# Altium schematic symbol library controller sch lib.SchLib: 18 symbols
Pins are listed as number, name and electrical type; pins without a type are passive.

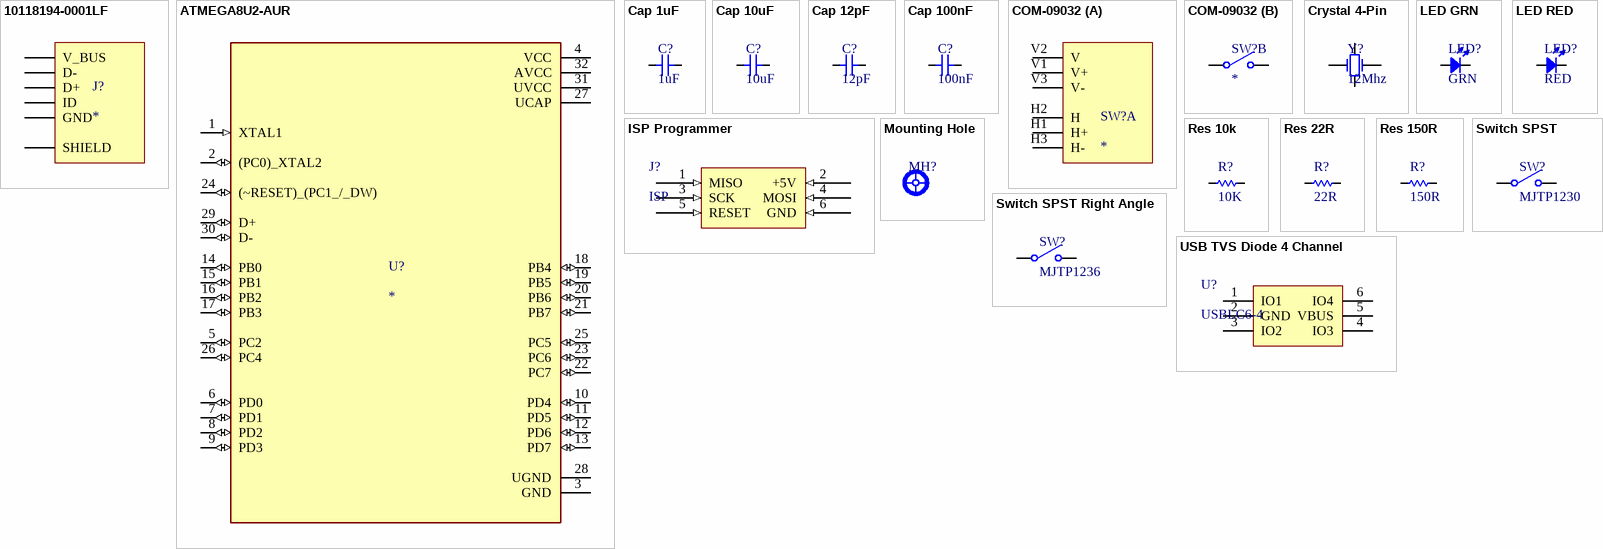
[diagram p0: symbols 10118194-0001LF to USB TVS Diode 4 Channel]

## 10118194-0001LF
designator J?
USB - micro B USB 2.0 Receptacle Connector 5 Position Surface Mount, Right Angle; Through Hole; MF: Amphenol ICC; MP: 10118194-0001LF; Package: None; Price: None; Availability: Unavailable; SnapEDA_Link: https://www.snapeda.com/parts/10118194-0001LF/Amphenol%20FCI/view-part/1413308/?ref=snap; Value: *
footprint AMPHENOL_10118194-0001LF
pins: 1 V_BUS, 2 D-, 3 D+, 4 ID, 5 GND, S1 SHIELD

## ATMEGA8U2-AUR
designator U?
AVR AVRÂ® ATmega Microcontroller IC 8-Bit 16MHz 8KB (4K x 16) FLASH 32-TQFP (7x7); MF: Microchip Technology / Atmel; MP: ATMEGA8U2-AUR; Value: *; Purchase-URL: https://pricing.snapeda.com/search/part/ATMEGA8U2-AUR/?ref=eda; Check_prices: https://www.snapeda.com/parts/ATMEGA8U2-AUR/Atmel/view-part/?ref=eda; Digi-Key_Part_Number: ATMEGA8U2-AURCT-ND; SnapEDA_Link: https://www.snapeda.com/parts/ATMEGA8U2-AUR/Atmel/view-part/?ref=snap; Package: None
footprint QFP80P900X900X120-32N
pins: 1 XTAL1 (in), 2 (PC0)_XTAL2 (io), 3 GND (power), 4 VCC (power), 5 PC2 (io), 6 PD0 (io), 7 PD1 (io), 8 PD2 (io), 9 PD3 (io), 10 PD4 (io), 11 PD5 (io), 12 PD6 (io), 13 PD7 (io), 14 PB0 (io), 15 PB1 (io), 16 PB2 (io), 17 PB3 (io), 18 PB4 (io), 19 PB5 (io), 20 PB6 (io), 21 PB7 (io), 22 PC7 (io), 23 PC6 (io), 24 (~RESET)_(PC1_/_DW) (io), 25 PC5 (io), 26 PC4 (io), 27 UCAP (power), 28 UGND (power), 29 D+ (io), 30 D- (io), 31 UVCC (power), 32 AVCC (power)

## Cap 1uF
designator C?, comment 1uF
CAP CER 1UF 25V X5R 0603 / CC0603KRX5R8BB105
footprint 0603 Chip (Chip Resistor, 2-Leads, Body 1.60x0.80mm, IPC Medium Density)
pins: 1, 2

## Cap 10uF
designator C?, comment 10uF
X5R 25V ±10% 10uF 0805 Multilayer Ceramic Capacitors MLCC - SMD/SMT ROHSCL21A106KAYNNNE
footprint 0805 SMD (Chip Capacitor, 2-Leads, Body 2.00x1.25mm, IPC Medium Density)
pins: 1, 2

## Cap 12pF
designator C?, comment 12pF
50V 12pF C0G ±5% 0603 Multilayer Ceramic Capacitors MLCC - SMD/SMT ROHS / CL10C120JB8NNNC
footprint 0603 Chip (Chip Resistor, 2-Leads, Body 1.60x0.80mm, IPC Medium Density)
pins: 1, 2

## Cap 100nF
designator C?, comment 100nF
50V 100nF X7R ±10% 0603 Multilayer Ceramic Capacitors MLCC - SMD/SMT ROHS / CC0603KRX7R9BB104
footprint 0603 Chip (Chip Resistor, 2-Leads, Body 1.60x0.80mm, IPC Medium Density)
pins: 1, 2

## COM-09032
designator SW?
Joystick, 2 - Axis Analog _Resistive_ Output; MF: SparkFun Electronics; MP: COM-09032; SnapEDA_Link: https://www.snapeda.com/parts/COM-09032/SparkFun%20Electronics/view-part/888157/?ref=snap; Availability: Unavailable; Value: *; Price: None; Package: SparkFun Electronics
footprint XDCR_COM-09032
part A pins: H1 H+, H2 H, H3 H-, V1 V+, V2 V, V3 V-
part B pins: 1 COMMON, 2 NO

## Crystal 4-Pin
designator Y?, comment 12Mhz
16MHz SMD Crystal Resonator 9pF ±10ppm ±30ppm -40℃~+85℃ / SMD3225-4P Crystals ROHS / X322516MLB4SI
footprint OSC_X322516MLB4SI
pins: 1 OSC1, 2 OSC2, 3, 4

## ISP Programmer
designator J?, comment ISP
6 Pin Header
footprint SAMTEC_TSW-103-17-S-D
pins: 1 MISO (in), 2 +5V (in), 3 SCK (in), 4 MOSI (in), 5 RESET (in), 6 GND (in)

## LED GRN
designator LED?, comment GRN
Yellow-Green 0805 Light Emitting Diodes (LED) ROHS / 17-21SYGC/S530-E3/TR8
footprint RESC2012X65N
pins: 1 A, 2 K

## LED RED
designator LED?, comment RED
20mA 61mcd 2V 632nm Colorless transparence 624nm~624nm -40℃~+85℃ Red 140° 60mW 0805 Light Emitting Diodes (LED) ROHS / 17-21SURC/S530-A3/TR8
footprint RESC2012X65N
pins: 1 A, 2 K

## Mounting Hole
designator MH?  (value not drawn)

## Res 10k
designator R?, comment 10K
±5% 100mW Thick Film Resistors 75V ±100ppm/℃ -55℃~+125℃ 10kΩ 0603 Chip Resistor - Surface Mount ROHS / RC0603JR-0710KL; MP: RE0603FRE07100KL; Vendor: Digikey; Vendor P/N: 13-RE0603FRE07100KLTR-ND; Mfg: YAGEO; Package: None; Price: None; Availability: Unavailable; Mfg P/N: RE0603FRE07100KL
footprint 0603 Chip (Chip Resistor, 2-Leads, Body 1.60x0.80mm, IPC Medium Density)
pins: 1, 2

## Res 22R
designator R?, comment 22R
±1% 1/10W Thick Film Resistors 75V ±100ppm/℃ -55℃~+155℃ 22Ω 0603 Chip Resistor - Surface Mount ROHS / 0603WAF220JT5E; MP: RE0603FRE07100KL; Vendor: Digikey; Vendor P/N: 13-RE0603FRE07100KLTR-ND; Mfg: YAGEO; Package: None; Price: None; Availability: Unavailable; Mfg P/N: RE0603FRE07100KL
footprint 0603 Chip (Chip Resistor, 2-Leads, Body 1.60x0.80mm, IPC Medium Density)
pins: 1, 2

## Res 150R
designator R?, comment 150R
±1% 1/10W Thick Film Resistors 75V ±100ppm/℃ -55℃~+155℃ 150Ω 0603 Chip Resistor - Surface Mount ROHS / 0603WAF1500T5E; MP: RE0603FRE07100KL; Vendor: Digikey; Vendor P/N: 13-RE0603FRE07100KLTR-ND; Mfg: YAGEO; Package: None; Price: None; Availability: Unavailable; Mfg P/N: RE0603FRE07100KL
footprint 0603 Chip (Chip Resistor, 2-Leads, Body 1.60x0.80mm, IPC Medium Density)
pins: 1, 2

## Switch SPST
designator SW?, comment MJTP1230
SWITCH TACTILE SPST-NO 0.05A 12V
footprint SW_TS02-66-43-BK-100-LCR-D
pins: 1 COMMON, 2 NO

## Switch SPST Right Angle
designator SW?, comment MJTP1236
SWITCH TACTILE SPST-NO 0.05A 12V
footprint SW MJTP1236 (Right Angled Switch)
pins: 1 COMMON, 2 NO

## USB TVS Diode 4 Channel
designator U?, comment USBLC6-4
TVS DIODE 5.25VWM 17VC SOT23-6
footprint SOT95P280X145-6N
pins: 1 IO1, 2 GND, 3 IO2, 4 IO3, 5 VBUS, 6 IO4